# Altium schematic symbol library TM1637_display.SchLib: 1 symbol
Pins are listed as number, name and electrical type; pins without a type are passive.

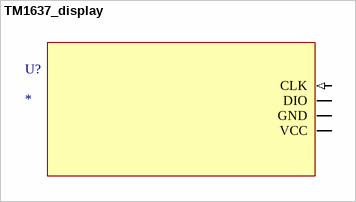
[diagram p0: symbol TM1637_display]

## TM1637_display
designator U?
pins: CLK (in), DIO (io), GND (io), VCC (io)